# EAGLE library part SN75LBC172A16DWR (library SN75LBC172A16DWR)
RS-485 Interface IC Quad RS-485 Diff Line Driver Source: Datasheet <https://www.ti.com/lit/gpn/sn75lbc172a>
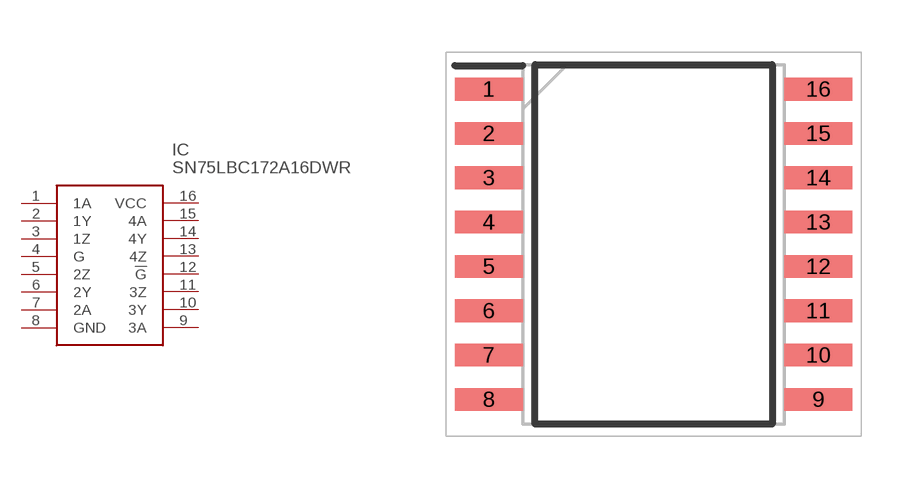
[diagram p0: symbol with the pads of SOIC127P1030X265-16N; footprint SOIC127P1030X265-16N]

Designator prefix IC

## SN75LBC172A16DWR (Arrow_Part_Number: SN75LBC172A16DWR; Arrow_Price-Stock: https://www.arrow.com/en/products/sn75lbc172a16dwr/texas-instruments; Description: RS-485 Interface IC Quad RS-485 Diff Line Driver; Height: 2.65mm; Manufacturer_Name: Texas Instruments; Manufacturer_Part_Number: SN75LBC172A16DWR; Mouser_Part_Number: 595-SN75LBC172A16DWR; Mouser_Price-Stock: https://www.mouser.com/Search/Refine.aspx?Keyword=595-SN75LBC172A16DWR)  [SOIC127P1030X265-16N]
1  1A
2  1Y
3  1Z
4  G
5  2Z
6  2Y
7  2A
8  GND
9  3A
10  3Y
11  3Z
12  !G
13  4Z
14  4Y
15  4A
16  VCC

## Footprint SOIC127P1030X265-16N (pad centres in mm)
DW0016A
smd 1.95 x 0.65: 1 -4.725,4.445; 2 -4.725,3.175; 3 -4.725,1.905; 4 -4.725,0.635; 5 -4.725,-0.635; 6 -4.725,-1.905; 7 -4.725,-3.175; 8 -4.725,-4.445; 9 4.725,-4.445; 10 4.725,-3.175; 11 4.725,-1.905; 12 4.725,-0.635; 13 4.725,0.635; 14 4.725,1.905; 15 4.725,3.175; 16 4.725,4.445